# EAGLE library part XBEE-MINIMAL (library pixhawk2-updated)
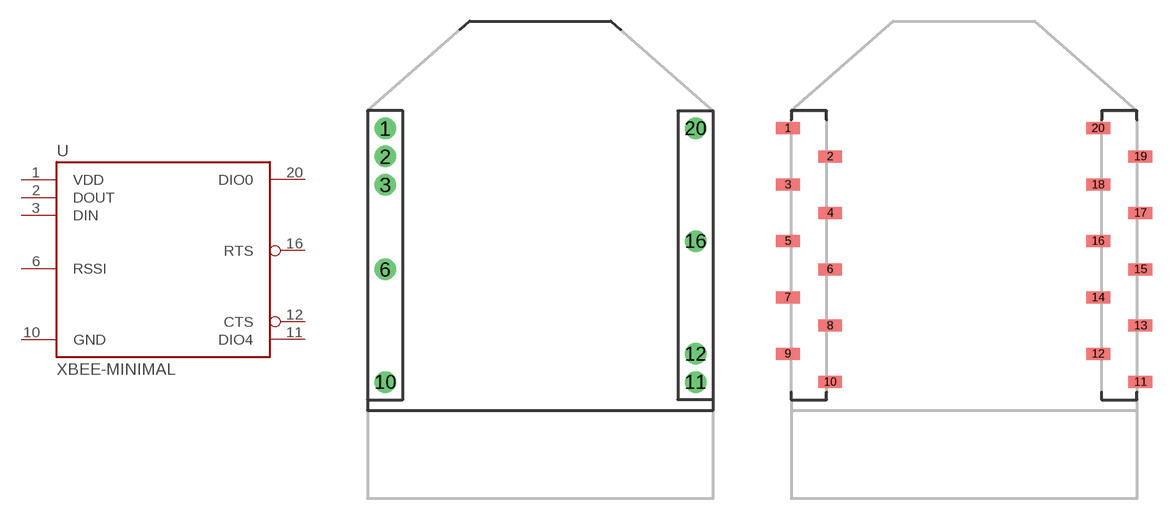
[diagram p25: symbol with the pads of XBEE-MINIMAL; footprints XBEE-MINIMAL, XBEE-SMD]

Designator prefix -

## XBEE-MINIMAL  [XBEE-MINIMAL]
1  VDD  pwr
2  DOUT  out
3  DIN  in
6  RSSI
10  GND  pwr
11  DIO4
12  CTS  out
16  RTS  in
20  DIO0

## XBEE-MINIMAL-SMD  [XBEE-SMD]
Pads as for XBEE-MINIMAL

## Footprint XBEE-MINIMAL (pad centres in mm)
drill 0.8 pad 1.524 round: 1 -11,8.57; 2 -11,6.57; 3 -11,4.57; 6 -11,-1.43; 10 -11,-9.43; 11 11,-9.43; 12 11,-7.43; 16 11,0.57; 20 11,8.57

## Footprint XBEE-SMD (pad centres in mm)
smd 1.7 x 0.85: 1 -12.5,20; 2 -9.5,18; 3 -12.5,16; 4 -9.5,14; 5 -12.5,12; 6 -9.5,10; 7 -12.5,8; 8 -9.5,6; 9 -12.5,4; 10 -9.5,2; 11 12.5,2; 12 9.5,4; 13 12.5,6; 14 9.5,8; 15 12.5,10; 16 9.5,12; 17 12.5,14; 18 9.5,16; 19 12.5,18; 20 9.5,20